# EAGLE library part SAMD10 (library LightController)
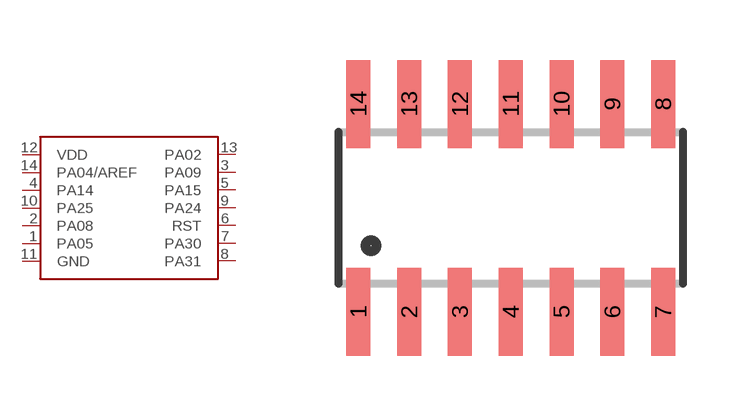
[diagram p0: symbol with the pads of SO14; footprint SO14]

Designator prefix U

## SAMD10  [SO14]
1  PA05
2  PA08
3  PA09
4  PA14
5  PA15
6  RST
7  PA30
8  PA31
9  PA24
10  PA25
11  GND
12  VDD
13  PA02
14  PA04/AREF

## Footprint SO14 (pad centres in mm)
14-Lead Narrow-Body SOIC (SO-14) Source: http://www.analog.com/static/imported-files/data_sheets/SSM2166.pdf
smd 0.6 x 2.2: 1 -3.81,-2.6; 2 -2.54,-2.6; 3 -1.27,-2.6; 4 0,-2.6; 5 1.27,-2.6; 6 2.54,-2.6; 7 3.81,-2.6; 8 3.81,2.6; 9 2.54,2.6; 10 1.27,2.6; 11 0,2.6; 12 -1.27,2.6; 13 -2.54,2.6; 14 -3.81,2.6